# EAGLE library part XBEE_EXPLORE_REGULATED (library MlabPaja)
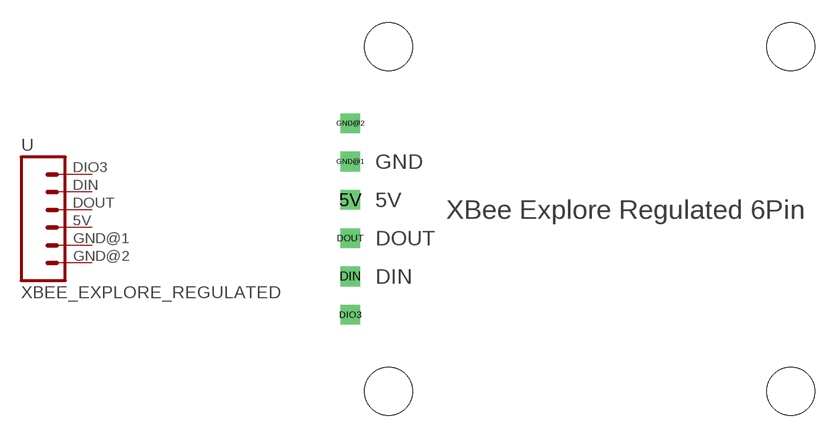
[diagram p14: symbol with the pads of XBEE_EXPLORE_REGULATED_6PIN; footprint XBEE_EXPLORE_REGULATED_6PIN]

Designator prefix -

## XBEE_EXPLORE_REGULATED  [XBEE_EXPLORE_REGULATED_6PIN]
5V  5V  pwr
DIN  DIN  in
DIO3  DIO3
DOUT  DOUT  out
GND@1  GND  pwr
GND@2  GND  pwr

## Footprint XBEE_EXPLORE_REGULATED_6PIN (pad centres in mm)
drill 0.8 square: 5V -8.89,1.27; DIN -8.89,-3.81; DIO3 -8.89,-6.35; DOUT -8.89,-1.27; GND@1 -8.89,3.81; GND@2 -8.89,6.35
hole 3.2 at -6.35,11.43
hole 3.2 at 20.32,11.43
hole 3.2 at 20.32,-11.43
hole 3.2 at -6.35,-11.43